# EAGLE library part V__VFD_G2 (library ++Bedrahtet)
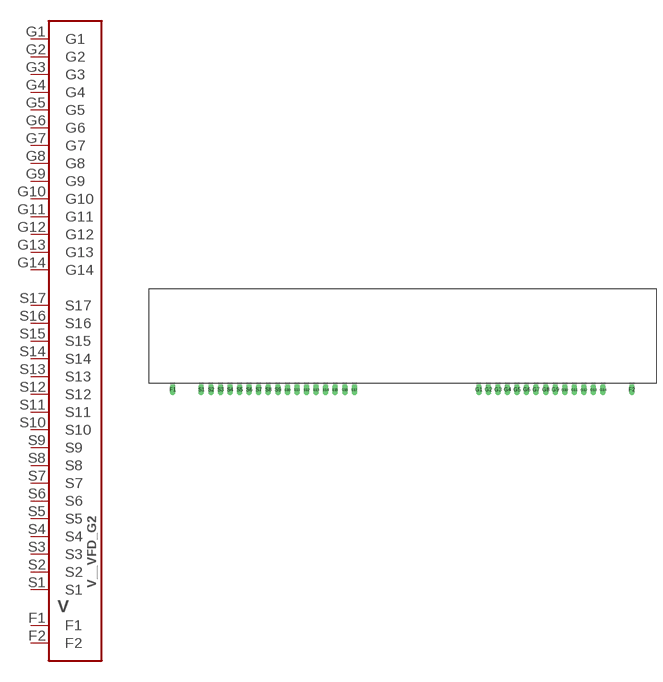
[diagram p56: symbol with the pads of VFD_G2; footprint VFD_G2]

Designator prefix V

## V__VFD_G2  [VFD_G2]
F1  F1
F2  F2
G1  G1
G2  G2
G3  G3
G4  G4
G5  G5
G6  G6
G7  G7
G8  G8
G9  G9
G10  G10
G11  G11
G12  G12
G13  G13
G14  G14
S1  S1
S2  S2
S3  S3
S4  S4
S5  S5
S6  S6
S7  S7
S8  S8
S9  S9
S10  S10
S11  S11
S12  S12
S13  S13
S14  S14
S15  S15
S16  S16
S17  S17

## Footprint VFD_G2 (pad centres in mm)
drill 1 long: F1 0,0; F2 121.92,0; G1 81.28,0; G2 83.82,0; G3 86.36,0; G4 88.9,0; G5 91.44,0; G6 93.98,0; G7 96.52,0; G8 99.06,0; G9 101.6,0; G10 104.14,0; G11 106.68,0; G12 109.22,0; G13 111.76,0; G14 114.3,0; S1 7.62,0; S2 10.16,0; S3 12.7,0; S4 15.24,0; S5 17.78,0; S6 20.32,0; S7 22.86,0; S8 25.4,0; S9 27.94,0; S10 30.48,0; S11 33.02,0; S12 35.56,0; S13 38.1,0; S14 40.64,0; S15 43.18,0; S16 45.72,0; S17 48.26,0